# EAGLE library part FT2232HQ (library jt-ftdi)
FTDI FT2232 dual RS232
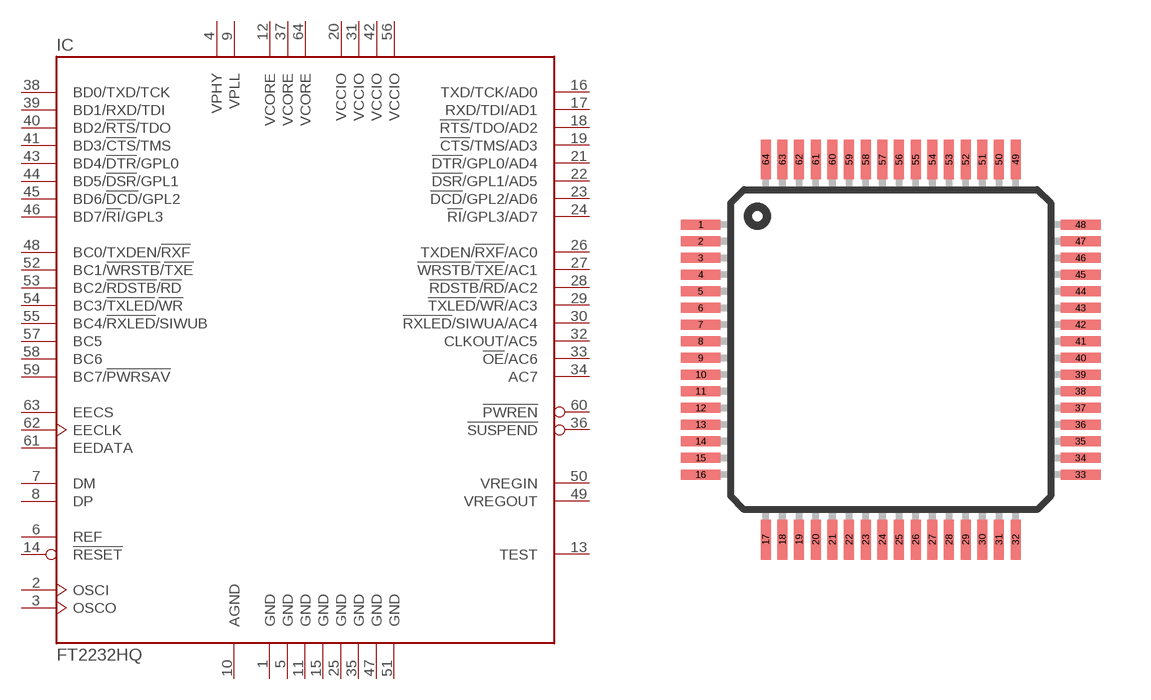
[diagram p0: symbol with the pads of TQFP64-10X10; footprint TQFP64-10X10]

Designator prefix IC

## FT2232HQLQFP  [TQFP64-10X10]
1  GND  pwr
2  OSCI
3  OSCO
4  VPHY  pwr
5  GND  pwr
6  REF  in
7  DM
8  DP
9  VPLL  pwr
10  AGND  pwr
11  GND  pwr
12  VCORE  pwr
13  TEST  in
14  !RESET  in
15  GND  pwr
16  TXD/TCK/AD0
17  RXD/TDI/AD1
18  !RTS!/TDO/AD2
19  !CTS!/TMS/AD3
20  VCCIO  pwr
21  !DTR!/GPL0/AD4
22  !DSR!/GPL1/AD5
23  !DCD!/GPL2/AD6
24  !RI!/GPL3/AD7
25  GND  pwr
26  TXDEN/!RXF!/AC0
27  !WRSTB!/!TXE!/AC1
28  !RDSTB!/!RD!/AC2
29  !TXLED!/!WR!/AC3
30  !RXLED!/SIWUA/AC4
31  VCCIO  pwr
32  CLKOUT/AC5
33  !OE!/AC6
34  AC7
35  GND  pwr
36  !SUSPEND  out
37  VCORE  pwr
38  BD0/TXD/TCK
39  BD1/RXD/TDI
40  BD2/!RTS!/TDO
41  BD3/!CTS!/TMS
42  VCCIO  pwr
43  BD4/!DTR!/GPL0
44  BD5/!DSR!/GPL1
45  BD6/!DCD!/GPL2
46  BD7/!RI!/GPL3
47  GND  pwr
48  BC0/TXDEN/!RXF
49  VREGOUT  pwr
50  VREGIN  pwr
51  GND  pwr
52  BC1/!WRSTB!/!TXE
53  BC2/!RDSTB!/!RD
54  BC3/!TXLED!/!WR
55  BC4/!RXLED!/SIWUB
56  VCCIO  pwr
57  BC5
58  BC6
59  BC7/!PWRSAV
60  !PWREN  out
61  EEDATA
62  EECLK  out
63  EECS
64  VCORE  pwr

## Footprint TQFP64-10X10 (pad centres in mm)
Thin Quad Flat Pack package type TQ
smd 1.2 x 0.3: 1 -5.7,3.75; 2 -5.7,3.25; 3 -5.7,2.75; 4 -5.7,2.25; 5 -5.7,1.75; 6 -5.7,1.25; 7 -5.7,0.75; 8 -5.7,0.25; 9 -5.7,-0.25; 10 -5.7,-0.75; 11 -5.7,-1.25; 12 -5.7,-1.75; 13 -5.7,-2.25; 14 -5.7,-2.75; 15 -5.7,-3.25; 16 -5.7,-3.75; 33 5.7,-3.75; 34 5.7,-3.25; 35 5.7,-2.75; 36 5.7,-2.25; 37 5.7,-1.75; 38 5.7,-1.25; 39 5.7,-0.75; 40 5.7,-0.25; 41 5.7,0.25; 42 5.7,0.75; 43 5.7,1.25; 44 5.7,1.75; 45 5.7,2.25; 46 5.7,2.75; 47 5.7,3.25; 48 5.7,3.75
smd 0.3 x 1.2: 17 -3.75,-5.7; 18 -3.25,-5.7; 19 -2.75,-5.7; 20 -2.25,-5.7; 21 -1.75,-5.7; 22 -1.25,-5.7; 23 -0.75,-5.7; 24 -0.25,-5.7; 25 0.25,-5.7; 26 0.75,-5.7; 27 1.25,-5.7; 28 1.75,-5.7; 29 2.25,-5.7; 30 2.75,-5.7; 31 3.25,-5.7; 32 3.75,-5.7; 49 3.75,5.7; 50 3.25,5.7; 51 2.75,5.7; 52 2.25,5.7; 53 1.75,5.7; 54 1.25,5.7; 55 0.75,5.7; 56 0.25,5.7; 57 -0.25,5.7; 58 -0.75,5.7; 59 -1.25,5.7; 60 -1.75,5.7; 61 -2.25,5.7; 62 -2.75,5.7; 63 -3.25,5.7; 64 -3.75,5.7